# Altium footprint library PES1-M.PcbLib: 1 footprints
Each footprint in its own frame and in the unit in brackets; x right, y up, seen from the top. Pads: shape width x height; smd on the part's side, far side on the other; paste and mask are expansions set on the pad; w line width, h text height; cw(c..) or ccw(c..) is an arc to the next point about the centre after c.
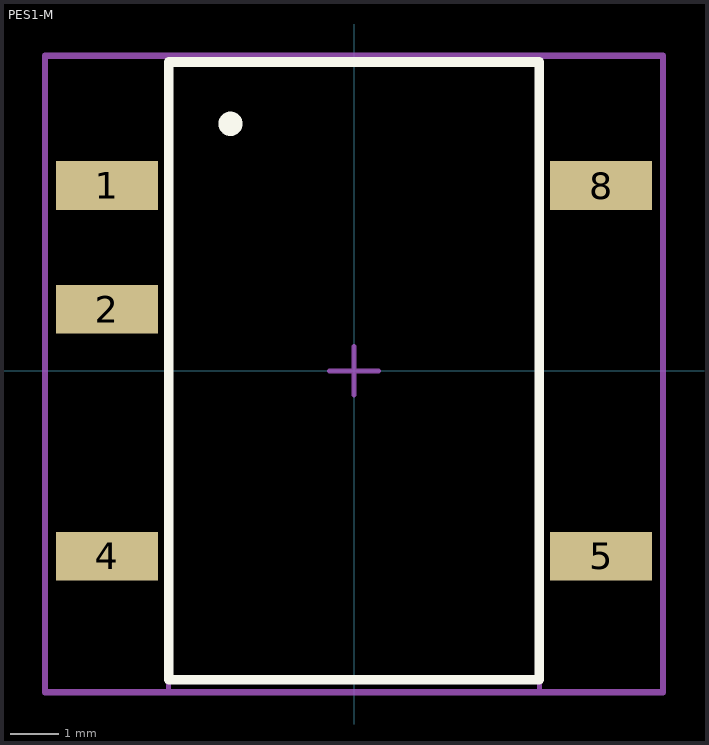
[diagram p0: the footprint, top view; thin cyan lines are the x and y axes]

## PES1-M [mm]
pads (5):
  rect 2.1x1 smd: 1(-5.08,3.81) 2(-5.08,1.27) 4(-5.08,-3.81) 5(5.08,-3.81) 8(5.08,3.81)
Top Overlay:
  circle w0.25: c-2.54,5.08 r0.125
  lines w0.2: -3.81,-6.35 -3.81,6.35 3.81,6.35 3.81,-6.35 -3.81,-6.35
Mechanical 13:
  lines w0.1: -3.81,-6.604 -3.81,6.477 3.81,6.477 3.81,-6.604 -3.81,-6.604
Mechanical 15:
  lines w0.1: -0.5,0 0.5,0 ; 0,-0.5 0,0.5
  lines w0.127: -6.35,-6.604 6.35,-6.604 6.35,6.477 -6.35,6.477 -6.35,-6.604
Mechanical 17:
  text "'.Designator'" at -3.81,0 h0.64
Mechanical 19:
  text "'.Comment'" at -2.54,0 h0.64
3D body "CUI_PES1-S5-S9-M.step": height 7.25, standoff 0, extent -5.622,-6.35 5.622,6.35